# Altium schematic symbol library SN74LVC1G3157DBVR.SchLib: 1 symbol
Pins are listed as number, name and electrical type; pins without a type are passive.

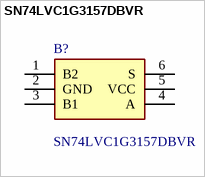
[diagram p0: symbol SN74LVC1G3157DBVR]

## SN74LVC1G3157DBVR
designator B?
SINGLE-POLE, DOUBLE-THROW ANALOG SWITCH; Manufacturer_Name: Texas Instruments; Geometry.Height: 1.45mm; Mouser Part Number: 595-SN74LVC1G3157DBV; Mouser Price/Stock: https://www.mouser.co.uk/ProductDetail/Texas-Instruments/SN74LVC1G3157DBVR?qs=PVVDbbWpW3ID6l2sElWeMw%3D%3D; Manufacturer_Part_Number: SN74LVC1G3157DBVR; Datasheet Link: http://componentsearchengine.com/Datasheets/1/SN74LVC1G3157DBVR.pdf
footprint SOT95P280X145-6N
pins: 1 B2, 2 GND, 3 B1, 4 A, 5 VCC, 6 S